# Altium integrated library Infineon_Power_MOSFET.IntLib: 1448 symbols (part 12 of 47)
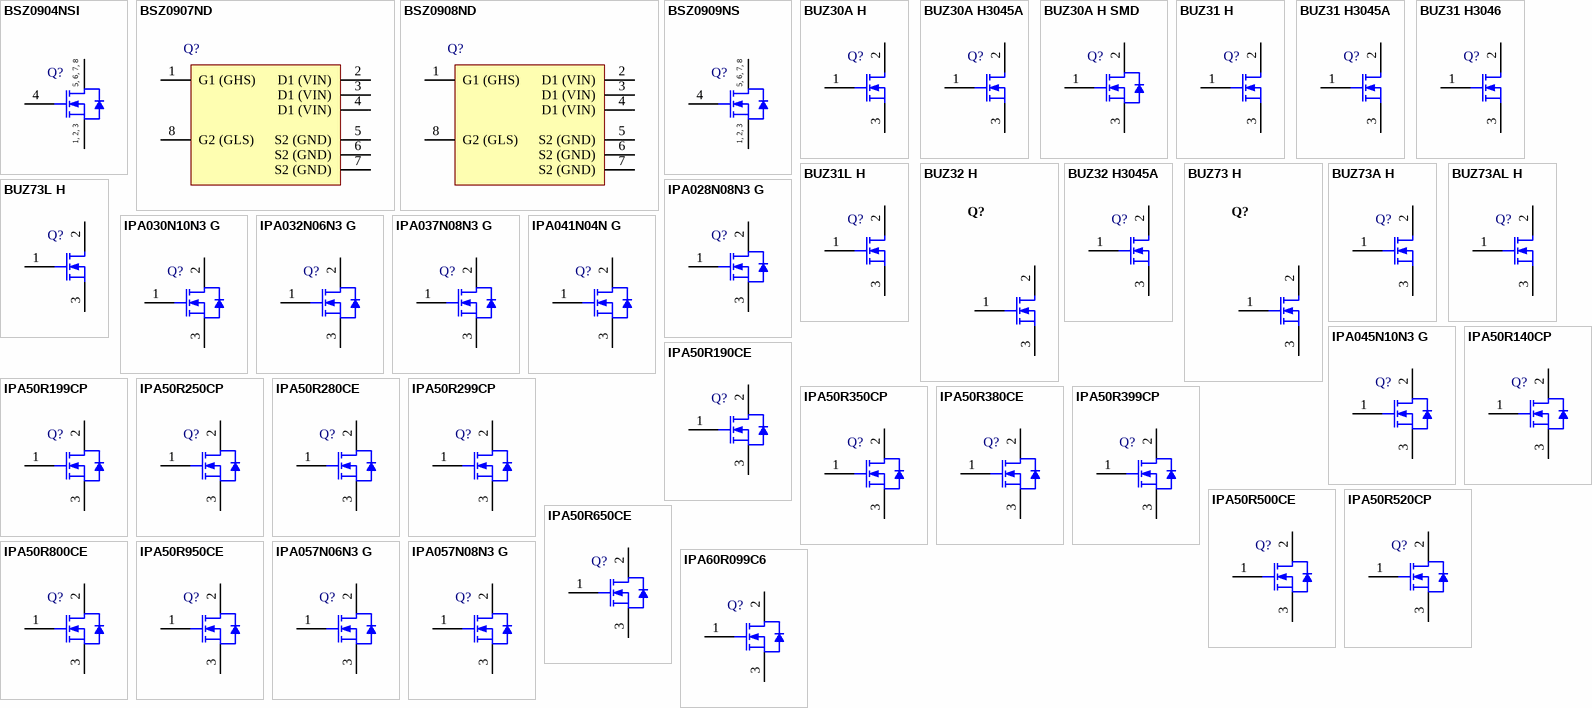
[diagram p48: symbols BSZ0904NSI to IPA60R099C6]

## BUZ73 H
designator Q?
N-Channel SIPMOS Power-Transistor, 200 V VDS, 7 A ID, -55 to 150 degC, PG-TO220-3-1, Tube, Green; Manufacturer: Infineon; PartNumber: BUZ73 H; Green: TRUE; ID (max): 7 A; IDpuls (max): 28 A; Polarity: N; Ptot (max): 40 W; RDS (on) (max): 400 mOhm; Rth: 3.1 K/W; RthJA (max): 75 K/W; VDS (max): 200 V; VGS(th) (max): 4 V; VGS(th) (min): 2.1 V; DatasheetVersion: Rev. 2.4; PackageVersion: Rev. 05, 08/2007; PackageReference: PG-TO220-3-1; PackageDescription: 3-Pin Plastic (Green) Transistor Single Outline Package, 10.03 x 8.98 mm Body, 2.54 mm Pitch; Supplier 1: Digi-Key; Supplier Part Number 1: BUZ73 H-ND; Halogen-free: TRUE; Packing: Tube; RthJC (max): 3.1 K/W; Mounting Technology: Through Hole; ComponentLink1Description: Manufacturer URL; ComponentLink1URL: http://www.infineon.com/; ComponentLink2Description: Datasheet; ComponentLink2URL: http://www.infineon.com/dgdl/Buz73+H_Rev2.4.pdf?folderId=db3a304313b8b5a60113cee8763b02d7&fileId=db3a30432219ca8f012230ef21a74530; ComponentLink3Description: Package Specification; ComponentLink3URL: http://www.infineon.com/dgdl/IPP028N08N3_Rev1%5B1%5D.0.pdf?folderId=db3a304313b8b5a60113cee8763b02d7&fileId=db3a30432313ff5e0123a3c08e7326b5
footprint INF-PG-TO220-3-1_A_V (FM, 3-Leads, Body 10.03x8.98mm, Pitch 2.54mm)
pins: 1 G, 2 D, 3 S

## BUZ73A H
designator Q?
N-Channel SIPMOS Power-Transistor, 200 V VDS, 5.5 A ID, -55 to 150 degC, PG-TO220-3-1, Tube, Green; Manufacturer: Infineon; PartNumber: BUZ73A H; Green: TRUE; ID (max): 5.5 A; IDpuls (max): 22 A; Polarity: N; Ptot (max): 40 W; RDS (on) (max): 600 mOhm; Rth: 3.1 K/W; RthJA (max): 75 K/W; VDS (max): 200 V; VGS(th) (max): 4 V; VGS(th) (min): 2.1 V; DatasheetVersion: Rev. 2.4; PackageVersion: Rev. 05, 08/2007; PackageReference: PG-TO220-3-1; PackageDescription: 3-Pin Plastic (Green) Transistor Single Outline Package, 10.03 x 8.98 mm Body, 2.54 mm Pitch; Supplier 1: Digi-Key; Supplier Part Number 1: BUZ73A H-ND; Halogen-free: TRUE; Packing: Tube; RthJC (max): 3.1 K/W; Mounting Technology: Through Hole; ComponentLink1Description: Manufacturer URL; ComponentLink1URL: http://www.infineon.com/; ComponentLink2Description: Datasheet; ComponentLink2URL: http://www.infineon.com/dgdl/Buz73A+H+G_Rev2.4.pdf?folderId=db3a304313b8b5a60113cee8763b02d7&fileId=db3a30431ddc9372011e06ee07522605; ComponentLink3Description: Package Specification; ComponentLink3URL: http://www.infineon.com/dgdl/IPP028N08N3_Rev1%5B1%5D.0.pdf?folderId=db3a304313b8b5a60113cee8763b02d7&fileId=db3a30432313ff5e0123a3c08e7326b5
footprint INF-PG-TO220-3-1_A_V (FM, 3-Leads, Body 10.03x8.98mm, Pitch 2.54mm)
pins: 1 G, 2 D, 3 S

## BUZ73AL H
designator Q?
N-Channel SIPMOS Power-Transistor, 200 V VDS, 5.5 A ID, -55 to 150 degC, PG-TO220-3-1, Tube, Green; Manufacturer: Infineon; PartNumber: BUZ73AL H; Green: TRUE; ID (max): 5.5 A; IDpuls (max): 22 A; Polarity: N; Ptot (max): 40 W; RDS (on) (max): 600 mOhm; Rth: 3.1 K/W; RthJA (max): 75 K/W; VDS (max): 200 V; VGS(th) (max): 2 V; VGS(th) (min): 1.2 V; DatasheetVersion: Rev. 2.4; PackageVersion: Rev. 05, 08/2007; PackageReference: PG-TO220-3-1; PackageDescription: 3-Pin Plastic (Green) Transistor Single Outline Package, 10.03 x 8.98 mm Body, 2.54 mm Pitch; Supplier 1: Digi-Key; Supplier Part Number 1: BUZ73AL H-ND; Halogen-free: TRUE; Packing: Tube; RDS (on) (max) (@4.5V): 600 mOhm; RthJC (max): 3.1 K/W; Mounting Technology: Through Hole; ComponentLink1Description: Manufacturer URL; ComponentLink1URL: http://www.infineon.com/; ComponentLink2Description: Datasheet; ComponentLink2URL: http://www.infineon.com/dgdl/Buz73AL+H_Rev+2.4.pdf?folderId=db3a304313b8b5a60113cee8763b02d7&fileId=db3a30432219ca8f012231104877454a; ComponentLink3Description: Package Specification; ComponentLink3URL: http://www.infineon.com/dgdl/IPP028N08N3_Rev1%5B1%5D.0.pdf?folderId=db3a304313b8b5a60113cee8763b02d7&fileId=db3a30432313ff5e0123a3c08e7326b5
footprint INF-PG-TO220-3-1_A_V (FM, 3-Leads, Body 10.03x8.98mm, Pitch 2.54mm)
pins: 1 G, 2 D, 3 S

## BUZ73L H
designator Q?
N-Channel SIPMOS Power-Transistor, 200 V VDS, 7 A ID, -55 to 150 degC, PG-TO220-3-1, Tube, Green; Manufacturer: Infineon; PartNumber: BUZ73L H; Green: TRUE; ID (max): 7 A; IDpuls (max): 28 A; Polarity: N; Ptot (max): 40 W; RDS (on) (max): 400 mOhm; Rth: 3.1 K/W; RthJA (max): 75 K/W; VDS (max): 200 V; VGS(th) (max): 2 V; VGS(th) (min): 1.2 V; DatasheetVersion: Rev. 2.4; PackageVersion: Rev. 05, 08/2007; PackageReference: PG-TO220-3-1; PackageDescription: 3-Pin Plastic (Green) Transistor Single Outline Package, 10.03 x 8.98 mm Body, 2.54 mm Pitch; Supplier 1: Digi-Key; Supplier Part Number 1: BUZ73L H-ND; Halogen-free: TRUE; Packing: Tube; RthJC (max): 3.1 K/W; Mounting Technology: Through Hole; ComponentLink1Description: Manufacturer URL; ComponentLink1URL: http://www.infineon.com/; ComponentLink2Description: Datasheet; ComponentLink2URL: http://www.infineon.com/dgdl/Buz73L+H_Rev+2.4.pdf?folderId=db3a304313b8b5a60113cee8763b02d7&fileId=db3a30432219ca8f012231355b174559; ComponentLink3Description: Package Specification; ComponentLink3URL: http://www.infineon.com/dgdl/IPP028N08N3_Rev1%5B1%5D.0.pdf?folderId=db3a304313b8b5a60113cee8763b02d7&fileId=db3a30432313ff5e0123a3c08e7326b5
footprint INF-PG-TO220-3-1_A_V (FM, 3-Leads, Body 10.03x8.98mm, Pitch 2.54mm)
pins: 1 G, 2 D, 3 S

## IPA028N08N3 G
designator Q?
N-Channel OptiMOS 3 Power-Transistor, 80 V VDS, 89 A ID, -55 to 175 degC, PG-TO220-FP, Tube, Green; Manufacturer: Infineon; PartNumber: IPA028N08N3 G; Green: TRUE; ID (max): 89 A; IDpuls (max): 352 A; Polarity: N; Ptot (max): 42 W; QG: 155 nC; RDS (on) (max): 2.8 mOhm; Rth: 3.6 K/W; VDS (max): 80 V; VGS(th) (max): 3.5 V; VGS(th) (min): 2 V; DatasheetVersion: Rev. 2.0; PackageVersion: Jan-07; PackageReference: PG-TO220-FP; PackageDescription: 3-Pin Plastic (Green) Transistor Single Outline Package, 10.5 x 9.68 mm Body, 2.54 mm Pitch; Supplier 1: Mouser; Supplier Part Number 1: 726-IPA028N08N3G; Supplier 2: Digi-Key; Supplier Part Number 2: IPA028N08N3 G-ND; Halogen-free: TRUE; Packing: Tube; RthJC (max): 3.6 K/W; Mounting Technology: Through Hole; ComponentLink1Description: Manufacturer URL; ComponentLink1URL: http://www.infineon.com/; ComponentLink2Description: Datasheet; ComponentLink2URL: http://www.infineon.com/dgdl/IPA028N08N3_Rev2.pdf?folderId=db3a30431a5c32f2011a809773886508&fileId=db3a30431f848401011fa2d78a37347b; ComponentLink3Description: Package Specification; ComponentLink3URL: http://www.infineon.com/dgdl/IPA100N08N3_Rev2.0.pdf?folderId=db3a304313b8b5a60113cee8763b02d7&fileId=db3a30431d8a6b3c011dce0add50352e
footprint INF-PG-TO220-FP (FM, 3-Leads, Body 10.5x4.7mm, Pitch 2.54mm)
pins: 1 GATE, 2 DRAIN, 3 SOURCE

## IPA030N10N3 G
designator Q?
N-Channel OptiMOS 3 Power-Transistor, 100 V VDS, 79 A ID, -55 to 175 degC, PG-TO220-FP, Tube, Green; Manufacturer: Infineon; PartNumber: IPA030N10N3 G; Green: TRUE; ID (max): 79 A; IDpuls (max): 316 A; Polarity: N; Ptot (max): 41 W; QG: 155 nC; RDS (on) (max): 3 mOhm; Rth: 3.7 K/W; VDS (max): 100 V; VGS(th) (max): 3.5 V; VGS(th) (min): 2 V; DatasheetVersion: Rev. 2.1; PackageVersion: Jan-07; PackageReference: PG-TO220-FP; PackageDescription: 3-Pin Plastic (Green) Transistor Single Outline Package, 10.5 x 9.68 mm Body, 2.54 mm Pitch; Supplier 1: Mouser; Supplier Part Number 1: 726-IPA030N10N3G; Supplier 2: Digi-Key; Supplier Part Number 2: IPA030N10N3 G-ND; Halogen-free: TRUE; Packing: Tube; RthJC (max): 3.7 K/W; Mounting Technology: Through Hole; ComponentLink1Description: Manufacturer URL; ComponentLink1URL: http://www.infineon.com/; ComponentLink2Description: Datasheet; ComponentLink2URL: http://www.infineon.com/dgdl/IPA030N10N3+G_Rev2.1.pdf?folderId=db3a304313b8b5a60113cee8763b02d7&fileId=db3a30432239cccd01226031faed7f38; ComponentLink3Description: Package Specification; ComponentLink3URL: http://www.infineon.com/dgdl/IPA100N08N3_Rev2.0.pdf?folderId=db3a304313b8b5a60113cee8763b02d7&fileId=db3a30431d8a6b3c011dce0add50352e
footprint INF-PG-TO220-FP (FM, 3-Leads, Body 10.5x4.7mm, Pitch 2.54mm)
pins: 1 GATE, 2 DRAIN, 3 SOURCE

## IPA032N06N3 G
designator Q?
N-Channel OptiMOS 3 Power-Transistor, 60 V VDS, 84 A ID, -55 to 175 degC, PG-TO220-3-31, Tube, Green; Manufacturer: Infineon; PartNumber: IPA032N06N3 G; Green: TRUE; ID (max): 84 A; IDpuls (max): 336 A; Polarity: N; Ptot (max): 41 W; QG: 124 nC; RDS (on) (max): 3.2 mOhm; Rth: 3.7 K/W; VDS (max): 60 V; VGS(th) (max): 4 V; VGS(th) (min): 2 V; DatasheetVersion: Rev. 2.0; PackageVersion: Jan-07; PackageReference: PG-TO220-3-31; PackageDescription: 3-Pin Plastic (Green) Transistor Single Outline Package, 10.5 x 9.68 mm Body, 2.54 mm Pitch; Supplier 1: Mouser; Supplier Part Number 1: 726-IPA032N06N3G; Supplier 2: Digi-Key; Supplier Part Number 2: IPA032N06N3 G-ND; Halogen-free: TRUE; Packing: Tube; RthJC (max): 3.7 K/W; Mounting Technology: Through Hole; ComponentLink1Description: Manufacturer URL; ComponentLink1URL: http://www.infineon.com/; ComponentLink2Description: Datasheet; ComponentLink2URL: http://www.infineon.com/dgdl/IPA032N06N3_Rev2+0.pdf?folderId=db3a30431441fb5d01148ca9f1be0e77&fileId=db3a3043284aacd8012882aa847a5419; ComponentLink3Description: Package Specification; ComponentLink3URL: http://www.infineon.com/dgdl/IPA093N06N3_Rev2+0.pdf?folderId=db3a30431441fb5d01148ca9f1be0e77&fileId=db3a3043284aacd8012882bf84115438
footprint INF-PG-TO220-3-31 (FM, 3-Leads, Body 10.5x4.7mm, Pitch 2.54mm)
pins: 1 GATE, 2 DRAIN, 3 SOURCE

## IPA037N08N3 G
designator Q?
N-Channel OptiMOS 3 Power-Transistor, 80 V VDS, 75 A ID, -55 to 175 degC, PG-TO220-FP, Tube, Green; Manufacturer: Infineon; PartNumber: IPA037N08N3 G; Green: TRUE; ID (max): 75 A; IDpuls (max): 300 A; Polarity: N; Ptot (max): 41 W; QG: 88 nC; RDS (on) (max): 3.7 mOhm; Rth: 3.7 K/W; VDS (max): 80 V; VGS(th) (max): 3.5 V; VGS(th) (min): 2 V; DatasheetVersion: Rev. 2.0; PackageVersion: Jan-07; PackageReference: PG-TO220-FP; PackageDescription: 3-Pin Plastic (Green) Transistor Single Outline Package, 10.5 x 9.68 mm Body, 2.54 mm Pitch; Supplier 1: Mouser; Supplier Part Number 1: 726-IPA037N08N3G; Supplier 2: Newark; Supplier Part Number 2: 60R2637; Supplier 3: Digi-Key; Supplier Part Number 3: IPA037N08N3 G-ND; Halogen-free: TRUE; Packing: Tube; RthJC (max): 3.7 K/W; Mounting Technology: Through Hole; ComponentLink1Description: Manufacturer URL; ComponentLink1URL: http://www.infineon.com/; ComponentLink2Description: Datasheet; ComponentLink2URL: http://www.infineon.com/dgdl/IPA037N08N3_Rev2.pdf?folderId=db3a304313b8b5a60113cee8763b02d7&fileId=db3a30431d8a6b3c011dce12d2e1353d; ComponentLink3Description: Package Specification; ComponentLink3URL: http://www.infineon.com/dgdl/IPA100N08N3_Rev2.0.pdf?folderId=db3a304313b8b5a60113cee8763b02d7&fileId=db3a30431d8a6b3c011dce0add50352e
footprint INF-PG-TO220-FP (FM, 3-Leads, Body 10.5x4.7mm, Pitch 2.54mm)
pins: 1 GATE, 2 DRAIN, 3 SOURCE

## IPA041N04N G
designator Q?
N-Channel OptiMOS(TM) 3 Power-Transistor, 40 V VDS, 70 A ID, PG-TO220-FP-3, Tube, Green; Manufacturer: Infineon; PartNumber: IPA041N04N G; Green: TRUE; ID (max): 70 A; IDpuls (max): 280 A; Polarity: N; Ptot (max): 35 W; QG: 42 nc; RDS (on) (max): 4.1 mOhm; RthJA (max): 62 K/W; RthJC (max): 4.3 K/W; VDS (max): 40 V; VGS(th) (max): 4 V; VGS(th) (min): 2 V; DatasheetVersion: Rev. 2.0; PackageVersion: Rev. 03, 03/2007; PackageReference: PG-TO220-FP-3-03; PackageDescription: 3-Pin Plastic (Green) Transistor Single Outline Package, 10.5 x 4.7 mm Body, 2.54 mm Pitch; Halogen-free: TRUE; Mounting: THT; Packing: Tube; Technology: OptiMOS(TM) 3; Mounting Technology: Through Hole; ComponentLink1Description: Manufacturer URL; ComponentLink1URL: http://www.infineon.com/; ComponentLink2Description: Datasheet; ComponentLink2URL: http://www.infineon.com/dgdl/DS_IPA041N04N_G_2_0.pdf?folderId=db3a304313b8b5a60113cee8763b02d7&fileId=5546d46145460399014560aaf8193f1c; ComponentLink3Description: Package Specification; ComponentLink3URL: http://www.infineon.com/dgdl/DS_IPA041N04N_G_2_0.pdf?folderId=db3a304313b8b5a60113cee8763b02d7&fileId=5546d46145460399014560aaf8193f1c
footprint INF-PG-TO220-FP-3-03 (FM, 3-Leads, Body 10.65x4.85mm, Pitch 2.54mm)
pins: 1 GATE, 2 DRAIN, 3 SOURCE

## IPA045N10N3 G
designator Q?
N-Channel OptiMOS 3 Power-Transistor, 100 V VDS, 64 A ID, -55 to 175 degC, PG-TO220-FP, Tube, Green; Manufacturer: Infineon; PartNumber: IPA045N10N3 G; Green: TRUE; ID (max): 64 A; IDpuls (max): 256 A; Polarity: N; Ptot (max): 39 W; QG: 88 nC; RDS (on) (max): 4.5 mOhm; Rth: 3.8 K/W; VDS (max): 100 V; VGS(th) (max): 3.5 V; VGS(th) (min): 2 V; DatasheetVersion: Rev. 2.2; PackageVersion: Jan-07; PackageReference: PG-TO220-FP; PackageDescription: 3-Pin Plastic (Green) Transistor Single Outline Package, 10.5 x 9.68 mm Body, 2.54 mm Pitch; Supplier 1: Mouser; Supplier Part Number 1: 726-IPA045N10N3G; Supplier 2: Digi-Key; Supplier Part Number 2: IPA045N10N3 G-ND; Halogen-free: TRUE; Packing: Tube; RthJC (max): 3.8 K/W; Mounting Technology: Through Hole; ComponentLink1Description: Manufacturer URL; ComponentLink1URL: http://www.infineon.com/; ComponentLink2Description: Datasheet; ComponentLink2URL: http://www.infineon.com/dgdl/IPA045N10N3+G_Rev2.2.pdf?folderId=db3a304313b8b5a60113cee8763b02d7&fileId=db3a30432239cccd0122600237f57ece; ComponentLink3Description: Package Specification; ComponentLink3URL: http://www.infineon.com/dgdl/IPA100N08N3_Rev2.0.pdf?folderId=db3a304313b8b5a60113cee8763b02d7&fileId=db3a30431d8a6b3c011dce0add50352e
footprint INF-PG-TO220-FP (FM, 3-Leads, Body 10.5x4.7mm, Pitch 2.54mm)
pins: 1 GATE, 2 DRAIN, 3 SOURCE

## IPA50R140CP
designator Q?
N-Channel CoolMOS Power-Transistor, 500 V VDS, 23 A ID, -55 to 150 degC, PG-TO220-3-31, Tube, Green; Manufacturer: Infineon; PartNumber: IPA50R140CP; Green: TRUE; ID (max): 23 A; IDpuls (max): 56 A; Polarity: N; Ptot (max): 34 W; QG: 48 nC; RDS (on) (max): 140 mOhm; Rth: 3.65 K/W; RthJA (max): 62 K/W; VDS (max): 500 V; VGS(th) (max): 3.5 V; VGS(th) (min): 2.5 V; DatasheetVersion: Rev. 2.1; PackageVersion: Jan-07; PackageReference: PG-TO220-3-31; PackageDescription: 3-Pin Plastic (Green) Transistor Single Outline Package, 10.5 x 9.68 mm Body, 2.54 mm Pitch; Supplier 1: Mouser; Supplier Part Number 1: 726-IPA50R140CP; Supplier 2: Newark; Supplier Part Number 2: 33P7107; Supplier 3: Farnell; Supplier Part Number 3: 1663985; Supplier 4: Digi-Key; Supplier Part Number 4: IPA50R140CP-ND; Halogen-free: TRUE; Packing: Tube; RthJC (max): 3.65 K/W; Technology: CoolMOS CP; Mounting Technology: Through Hole; ComponentLink1Description: Manufacturer URL; ComponentLink1URL: http://www.infineon.com/; ComponentLink2Description: Datasheet; ComponentLink2URL: http://www.infineon.com/dgdl/IPA50R140CP_rev2.1.pdf?folderId=db3a304412b407950112b408e8c90004&fileId=db3a304412b407950112b42cdc7347c0; ComponentLink3Description: Package Specification; ComponentLink3URL: http://www.infineon.com/dgdl/IPA093N06N3_Rev2+0.pdf?folderId=db3a30431441fb5d01148ca9f1be0e77&fileId=db3a3043284aacd8012882bf84115438
footprint INF-PG-TO220-3-31 (FM, 3-Leads, Body 10.5x4.7mm, Pitch 2.54mm)
pins: 1 GATE, 2 DRAIN, 3 SOURCE

## IPA50R190CE
designator Q?
N-Channel CoolMOS CE Power-Transistor, 500 V VDS, 18.5 A ID, -55 to 150 degC, PG-TO220-3-31, Tube, Green; Manufacturer: Infineon; PartNumber: IPA50R190CE; Green: TRUE; ID (max): 18.5 A; IDpuls (max): 63 A; Polarity: N; Ptot (max): 32 W; QG: 47.2 nC; RDS (on) (max): 190 mOhm; Rth: 3.9 K/W; RthJA (max): 80 K/W; VDS (max): 500 V; VGS(th) (max): 3.5 V; VGS(th) (min): 2.5 V; DatasheetVersion: Rev. 2.0; PackageVersion: Jan-07; PackageReference: PG-TO220-3-31; PackageDescription: 3-Pin Plastic (Green) Transistor Single Outline Package, 10.5 x 9.68 mm Body, 2.54 mm Pitch; Supplier 1: Digi-Key; Supplier Part Number 1: IPA50R190CE-ND; Halogen-free: TRUE; Packing: Tube; RthJC (max): 3.9 K/W; Technology: CoolMOS CE; Mounting Technology: Through Hole; ComponentLink1Description: Manufacturer URL; ComponentLink1URL: http://www.infineon.com/; ComponentLink2Description: Datasheet; ComponentLink2URL: http://www.infineon.com/dgdl/IPx50R380CE_2.0.pdf?folderId=db3a3043163797a6011637d4bae7003b&fileId=db3a30432e398416012e5273936c15b0; ComponentLink3Description: Package Specification; ComponentLink3URL: http://www.infineon.com/dgdl/IPA093N06N3_Rev2+0.pdf?folderId=db3a30431441fb5d01148ca9f1be0e77&fileId=db3a3043284aacd8012882bf84115438
footprint INF-PG-TO220-3-31 (FM, 3-Leads, Body 10.5x4.7mm, Pitch 2.54mm)
pins: 1 GATE, 2 DRAIN, 3 SOURCE

## IPA50R199CP
designator Q?
N-Channel CoolMOS Power-Transistor, 500 V VDS, 17 A ID, -55 to 150 degC, PG-TO220-3-31, Tube, Green; Manufacturer: Infineon; PartNumber: IPA50R199CP; Green: TRUE; ID (max): 17 A; IDpuls (max): 40 A; Polarity: N; Ptot (max): 139 W; QG: 34 nC; RDS (on) (max): 199 mOhm; Rth: 3.7 K/W; RthJA (max): 62 K/W; VDS (max): 500 V; VGS(th) (max): 3.5 V; VGS(th) (min): 2.5 V; DatasheetVersion: Rev. 2.0; PackageVersion: Jan-07; PackageReference: PG-TO220-3-31; PackageDescription: 3-Pin Plastic (Green) Transistor Single Outline Package, 10.5 x 9.68 mm Body, 2.54 mm Pitch; Supplier 1: Mouser; Supplier Part Number 1: 726-IPA50R199CP; Supplier 2: Digi-Key; Supplier Part Number 2: IPA50R199CP-ND; Halogen-free: TRUE; Packing: Tube; RthJC (max): 3.7 K/W; Technology: CoolMOS CP; Mounting Technology: Through Hole; ComponentLink1Description: Manufacturer URL; ComponentLink1URL: http://www.infineon.com/; ComponentLink2Description: Datasheet; ComponentLink2URL: http://www.infineon.com/dgdl/IPA50R199CP_rev2.0.pdf?folderId=db3a30431ff98815012019af55de3f2c&fileId=db3a304320896aa201208b347657008a; ComponentLink3Description: Package Specification; ComponentLink3URL: http://www.infineon.com/dgdl/IPA093N06N3_Rev2+0.pdf?folderId=db3a30431441fb5d01148ca9f1be0e77&fileId=db3a3043284aacd8012882bf84115438
footprint INF-PG-TO220-3-31 (FM, 3-Leads, Body 10.5x4.7mm, Pitch 2.54mm)
pins: 1 GATE, 2 DRAIN, 3 SOURCE

## IPA50R250CP
designator Q?
N-Channel CoolMOS Power-Transistor, 500 V VDS, 13 A ID, -55 to 150 degC, PG-TO220-3-31, Tube, Green; Manufacturer: Infineon; PartNumber: IPA50R250CP; Green: TRUE; ID (max): 13 A; IDpuls (max): 31 A; Polarity: N; Ptot (max): 33 W; QG: 27 nC; RDS (on) (max): 250 mOhm; Rth: 3.75 K/W; RthJA (max): 62 K/W; VDS (max): 500 V; VGS(th) (max): 3.5 V; VGS(th) (min): 2.5 V; DatasheetVersion: Rev. 2.0; PackageVersion: Jan-07; PackageReference: PG-TO220-3-31; PackageDescription: 3-Pin Plastic (Green) Transistor Single Outline Package, 10.5 x 9.68 mm Body, 2.54 mm Pitch; Supplier 1: Mouser; Supplier Part Number 1: 726-IPA50R250CP; Supplier 2: Farnell; Supplier Part Number 2: 1663988; Supplier 3: Digi-Key; Supplier Part Number 3: IPA50R250CP-ND; Halogen-free: TRUE; Packing: Tube; RthJC (max): 3.75 K/W; Technology: CoolMOS CP; Mounting Technology: Through Hole; ComponentLink1Description: Manufacturer URL; ComponentLink1URL: http://www.infineon.com/; ComponentLink2Description: Datasheet; ComponentLink2URL: http://www.infineon.com/dgdl/IPA50R250CP_rev2.0.pdf?folderId=db3a304412b407950112b408e8c90004&fileId=db3a304412b407950112b42cd97047bc; ComponentLink3Description: Package Specification; ComponentLink3URL: http://www.infineon.com/dgdl/IPA093N06N3_Rev2+0.pdf?folderId=db3a30431441fb5d01148ca9f1be0e77&fileId=db3a3043284aacd8012882bf84115438
footprint INF-PG-TO220-3-31 (FM, 3-Leads, Body 10.5x4.7mm, Pitch 2.54mm)
pins: 1 GATE, 2 DRAIN, 3 SOURCE

## IPA50R280CE
designator Q?
N-Channel CoolMOS CE Power-Transistor, 500 V VDS, 13 A ID, -55 to 150 degC, PG-TO220-3-31, Tube, Green; Manufacturer: Infineon; PartNumber: IPA50R280CE; Green: TRUE; ID (max): 13 A; IDpuls (max): 42.9 A; Polarity: N; Ptot (max): 30 W; QG: 32.6 nC; RDS (on) (max): 280 mOhm; Rth: 4.11 K/W; RthJA (max): 80 K/W; VDS (max): 500 V; VGS(th) (max): 3.5 V; VGS(th) (min): 2.5 V; DatasheetVersion: Rev. 2.0; PackageVersion: Jan-07; PackageReference: PG-TO220-3-31; PackageDescription: 3-Pin Plastic (Green) Transistor Single Outline Package, 10.5 x 9.68 mm Body, 2.54 mm Pitch; Supplier 1: Mouser; Supplier Part Number 1: 726-IPA50R280CE; Supplier 2: Digi-Key; Supplier Part Number 2: IPA50R280CEIN-ND; Halogen-free: TRUE; Packing: Tube; RthJC (max): 4.11 K/W; Technology: CoolMOS CE; Mounting Technology: Through Hole; ComponentLink1Description: Manufacturer URL; ComponentLink1URL: http://www.infineon.com/; ComponentLink2Description: Datasheet; ComponentLink2URL: http://www.infineon.com/dgdl/IPx50R280CE+2.0.pdf?folderId=db3a3043156fd5730115c736bcc70ff2&fileId=db3a3043382e837301384ce20ea743c7; ComponentLink3Description: Package Specification; ComponentLink3URL: http://www.infineon.com/dgdl/IPA093N06N3_Rev2+0.pdf?folderId=db3a30431441fb5d01148ca9f1be0e77&fileId=db3a3043284aacd8012882bf84115438
footprint INF-PG-TO220-3-31 (FM, 3-Leads, Body 10.5x4.7mm, Pitch 2.54mm)
pins: 1 GATE, 2 DRAIN, 3 SOURCE

## IPA50R299CP
designator Q?
N-Channel CoolMOS Power-Transistor, 500 V VDS, 12 A ID, -55 to 150 degC, PG-TO220-3-31, Tube, Green; Manufacturer: Infineon; PartNumber: IPA50R299CP; Green: TRUE; ID (max): 12 A; IDpuls (max): 26 A; Polarity: N; Ptot (max): 104 W; QG: 23 nC; RDS (on) (max): 299 mOhm; Rth: 2.8 K/W; RthJA (max): 62 K/W; VDS (max): 500 V; VGS(th) (max): 3.5 V; VGS(th) (min): 2.5 V; DatasheetVersion: Rev. 2.0; PackageVersion: Jan-07; PackageReference: PG-TO220-3-31; PackageDescription: 3-Pin Plastic (Green) Transistor Single Outline Package, 10.5 x 9.68 mm Body, 2.54 mm Pitch; Supplier 1: Mouser; Supplier Part Number 1: 726-IPA50R299CP; Supplier 2: Newark; Supplier Part Number 2: 33P7110; Supplier 3: Farnell; Supplier Part Number 3: 1663989; Supplier 4: Digi-Key; Supplier Part Number 4: IPA50R299CP-ND; Halogen-free: TRUE; Packing: Tube; RthJC (max): 2.8 K/W; Technology: CoolMOS CP; Mounting Technology: Through Hole; ComponentLink1Description: Manufacturer URL; ComponentLink1URL: http://www.infineon.com/; ComponentLink2Description: Datasheet; ComponentLink2URL: http://www.infineon.com/dgdl/IPA50R299CP_rev2.0.pdf?folderId=db3a304412b407950112b408e8c90004&fileId=db3a304412b407950112b42db07348c7; ComponentLink3Description: Package Specification; ComponentLink3URL: http://www.infineon.com/dgdl/IPA093N06N3_Rev2+0.pdf?folderId=db3a30431441fb5d01148ca9f1be0e77&fileId=db3a3043284aacd8012882bf84115438
footprint INF-PG-TO220-3-31 (FM, 3-Leads, Body 10.5x4.7mm, Pitch 2.54mm)
pins: 1 GATE, 2 DRAIN, 3 SOURCE

## IPA50R350CP
designator Q?
N-Channel CoolMOS Power-Transistor, 500 V VDS, 10 A ID, -55 to 150 degC, PG-TO220-3-31, Tube, Green; Manufacturer: Infineon; PartNumber: IPA50R350CP; Green: TRUE; ID (max): 10 A; IDpuls (max): 22 A; Polarity: N; Ptot (max): 32 W; QG: 19 nC; RDS (on) (max): 350 mOhm; Rth: 3.9 K/W; RthJA (max): 62 K/W; VDS (max): 500 V; VGS(th) (max): 3.5 V; VGS(th) (min): 2.5 V; DatasheetVersion: Rev. 2.1; PackageVersion: Jan-07; PackageReference: PG-TO220-3-31; PackageDescription: 3-Pin Plastic (Green) Transistor Single Outline Package, 10.5 x 9.68 mm Body, 2.54 mm Pitch; Supplier 1: Mouser; Supplier Part Number 1: 726-IPA50R350CP; Supplier 2: Farnell; Supplier Part Number 2: 1663990; Supplier 3: Digi-Key; Supplier Part Number 3: IPA50R350CP-ND; Halogen-free: TRUE; Packing: Tube; RthJC (max): 3.9 K/W; Technology: CoolMOS CP; Mounting Technology: Through Hole; ComponentLink1Description: Manufacturer URL; ComponentLink1URL: http://www.infineon.com/; ComponentLink2Description: Datasheet; ComponentLink2URL: http://www.infineon.com/dgdl/IPA50R350CP_rev2.1.pdf?folderId=db3a304412b407950112b408e8c90004&fileId=db3a304412b407950112b42db39548cb; ComponentLink3Description: Package Specification; ComponentLink3URL: http://www.infineon.com/dgdl/IPA093N06N3_Rev2+0.pdf?folderId=db3a30431441fb5d01148ca9f1be0e77&fileId=db3a3043284aacd8012882bf84115438
footprint INF-PG-TO220-3-31 (FM, 3-Leads, Body 10.5x4.7mm, Pitch 2.54mm)
pins: 1 GATE, 2 DRAIN, 3 SOURCE

## IPA50R380CE
designator Q?
N-Channel CoolMOS CE Power-Transistor, 500 V VDS, 9.9 A ID, -55 to 150 degC, PG-TO220-3-31, Tube, Green; Manufacturer: Infineon; PartNumber: IPA50R380CE; Green: TRUE; ID (max): 9.9 A; IDpuls (max): 32.4 A; Polarity: N; Ptot (max): 29 W; QG: 24.8 nC; RDS (on) (max): 380 mOhm; Rth: 4 K/W; RthJA (max): 80 K/W; RthJC (max): 4.28 K/W; VDS (max): 500 V; VGS(th) (max): 3.5 V; VGS(th) (min): 2.5 V; DatasheetVersion: Rev. 2.0; PackageVersion: Jan-07; PackageReference: PG-TO220-3-31; PackageDescription: 3-Pin Plastic (Green) Transistor Single Outline Package, 10.5 x 9.68 mm Body, 2.54 mm Pitch; Supplier 1: Digi-Key; Supplier Part Number 1: IPA50R380CE-ND; Halogen-free: TRUE; Packing: Tube; Technology: CoolMOS CE; Mounting Technology: Through Hole; ComponentLink1Description: Manufacturer URL; ComponentLink1URL: http://www.infineon.com/; ComponentLink2Description: Datasheet; ComponentLink2URL: http://www.infineon.com/dgdl/IPx50R380CE_2.0.pdf?folderId=db3a3043156fd5730115c736bcc70ff2&fileId=db3a30432e398416012e527f2a5015c1; ComponentLink3Description: Package Specification; ComponentLink3URL: http://www.infineon.com/dgdl/IPA093N06N3_Rev2+0.pdf?folderId=db3a30431441fb5d01148ca9f1be0e77&fileId=db3a3043284aacd8012882bf84115438
footprint INF-PG-TO220-3-31 (FM, 3-Leads, Body 10.5x4.7mm, Pitch 2.54mm)
pins: 1 GATE, 2 DRAIN, 3 SOURCE

## IPA50R399CP
designator Q?
N-Channel CoolMOS Power-Transistor, 500 V VDS, 9 A ID, -55 to 150 degC, PG-TO220-3-31, Tube, Green; Manufacturer: Infineon; PartNumber: IPA50R399CP; Green: TRUE; ID (max): 9 A; IDpuls (max): 20 A; Polarity: N; Ptot (max): 83 W; QG: 17 nC; RDS (on) (max): 399 mOhm; Rth: 4 K/W; RthJA (max): 62 K/W; VDS (max): 500 V; VGS(th) (max): 3.5 V; VGS(th) (min): 2.5 V; DatasheetVersion: Rev. 2.1; PackageVersion: Jan-07; PackageReference: PG-TO220-3-31; PackageDescription: 3-Pin Plastic (Green) Transistor Single Outline Package, 10.5 x 9.68 mm Body, 2.54 mm Pitch; Supplier 1: Mouser; Supplier Part Number 1: 726-IPA50R399CP; Supplier 2: Newark; Supplier Part Number 2: 33P7112; Supplier 3: Farnell; Supplier Part Number 3: 1663991; Supplier 4: Digi-Key; Supplier Part Number 4: IPA50R399CP-ND; Halogen-free: TRUE; Packing: Tube; RthJC (max): 4 K/W; Technology: CoolMOS CP; Mounting Technology: Through Hole; ComponentLink1Description: Manufacturer URL; ComponentLink1URL: http://www.infineon.com/; ComponentLink2Description: Datasheet; ComponentLink2URL: http://www.infineon.com/dgdl/IPA50R399CP_rev2.1.pdf?folderId=db3a304412b407950112b408e8c90004&fileId=db3a304412b407950112b42db9b348d3; ComponentLink3Description: Package Specification; ComponentLink3URL: http://www.infineon.com/dgdl/IPA093N06N3_Rev2+0.pdf?folderId=db3a30431441fb5d01148ca9f1be0e77&fileId=db3a3043284aacd8012882bf84115438
footprint INF-PG-TO220-3-31 (FM, 3-Leads, Body 10.5x4.7mm, Pitch 2.54mm)
pins: 1 GATE, 2 DRAIN, 3 SOURCE

## IPA50R500CE
designator Q?
N-Channel CoolMOS CE Power-Transistor, 500 V VDS, 7.6 A ID, -55 to 150 degC, PG-TO220-3-31, Tube, Green; Manufacturer: Infineon; PartNumber: IPA50R500CE; Green: TRUE; ID (max): 7.6 A; IDpuls (max): 24 A; Polarity: N; Ptot (max): 28 W; QG: 18.7 nC; RDS (on) (max): 500 mOhm; Rth: 4.46 K/W; RthJA (max): 80 K/W; VDS (max): 500 V; VGS(th) (max): 3.5 V; VGS(th) (min): 2.5 V; DatasheetVersion: Rev. 2.0; PackageVersion: Jan-07; PackageReference: PG-TO220-3-31; PackageDescription: 3-Pin Plastic (Green) Transistor Single Outline Package, 10.5 x 9.68 mm Body, 2.54 mm Pitch; Supplier 1: Mouser; Supplier Part Number 1: 726-IPA50R500CE; Supplier 2: Digi-Key; Supplier Part Number 2: IPA50R500CEIN-ND; Halogen-free: TRUE; Packing: Tube; RthJC (max): 4.46 K/W; Technology: CoolMOS CE; Mounting Technology: Through Hole; ComponentLink1Description: Manufacturer URL; ComponentLink1URL: http://www.infineon.com/; ComponentLink2Description: Datasheet; ComponentLink2URL: http://www.infineon.com/dgdl/IPx50R500CE_2.0.pdf?folderId=db3a3043156fd5730115c736bcc70ff2&fileId=db3a3043382e83730138512967f70fce; ComponentLink3Description: Package Specification; ComponentLink3URL: http://www.infineon.com/dgdl/IPA093N06N3_Rev2+0.pdf?folderId=db3a30431441fb5d01148ca9f1be0e77&fileId=db3a3043284aacd8012882bf84115438
footprint INF-PG-TO220-3-31 (FM, 3-Leads, Body 10.5x4.7mm, Pitch 2.54mm)
pins: 1 GATE, 2 DRAIN, 3 SOURCE

## IPA50R520CP
designator Q?
N-Channel CoolMOS Power-Transistor, 500 V VDS, 7.1 A ID, -55 to 150 degC, PG-TO220-3-31, Tube, Green; Manufacturer: Infineon; PartNumber: IPA50R520CP; Green: TRUE; ID (max): 7.1 A; IDpuls (max): 15 A; Polarity: N; Ptot (max): 66 W; QG: 13 nC; RDS (on) (max): 520 mOhm; Rth: 4.2 K/W; RthJA (max): 62 K/W; VDS (max): 500 V; VGS(th) (max): 3.5 V; VGS(th) (min): 2.5 V; DatasheetVersion: Rev. 2.0; PackageVersion: Jan-07; PackageReference: PG-TO220-3-31; PackageDescription: 3-Pin Plastic (Green) Transistor Single Outline Package, 10.5 x 9.68 mm Body, 2.54 mm Pitch; Supplier 1: Mouser; Supplier Part Number 1: 726-IPA50R520CP; Supplier 2: Farnell; Supplier Part Number 2: 1663992; Supplier 3: Digi-Key; Supplier Part Number 3: IPA50R520CP-ND; Halogen-free: TRUE; Packing: Tube; RthJC (max): 4.2 K/W; Technology: CoolMOS CP; Mounting Technology: Through Hole; ComponentLink1Description: Manufacturer URL; ComponentLink1URL: http://www.infineon.com/; ComponentLink2Description: Datasheet; ComponentLink2URL: http://www.infineon.com/dgdl/IPA50R520CP_rev2.0.pdf?folderId=db3a304412b407950112b408e8c90004&fileId=db3a304412b407950112b42dbcc548d7; ComponentLink3Description: Package Specification; ComponentLink3URL: http://www.infineon.com/dgdl/IPA093N06N3_Rev2+0.pdf?folderId=db3a30431441fb5d01148ca9f1be0e77&fileId=db3a3043284aacd8012882bf84115438
footprint INF-PG-TO220-3-31 (FM, 3-Leads, Body 10.5x4.7mm, Pitch 2.54mm)
pins: 1 GATE, 2 DRAIN, 3 SOURCE

## IPA50R650CE
designator Q?
N-Channel CoolMOS CE Power-Transistor, 500 V VDS, 6.1 A ID, -55 to 150 degC, PG-TO220-3-31, Tube, Green; Manufacturer: Infineon; PartNumber: IPA50R650CE; Green: TRUE; ID (max): 6.1 A; IDpuls (max): 19 A; Polarity: N; Ptot (max): 27 W; QG: 15 nC; RDS (on) (max): 650 mOhm; Rth: 4.6 K/W; RthJA (max): 80 K/W; VDS (max): 500 V; VGS(th) (max): 3.5 V; VGS(th) (min): 2.5 V; DatasheetVersion: Rev. 2.0; PackageVersion: Jan-07; PackageReference: PG-TO220-3-31; PackageDescription: 3-Pin Plastic (Green) Transistor Single Outline Package, 10.5 x 9.68 mm Body, 2.54 mm Pitch; Supplier 1: Digi-Key; Supplier Part Number 1: IPA50R650CE-ND; Halogen-free: TRUE; Packing: Tube; RthJC (max): 4.6 K/W; Technology: CoolMOS CE; Mounting Technology: Through Hole; ComponentLink1Description: Manufacturer URL; ComponentLink1URL: http://www.infineon.com/; ComponentLink2Description: Datasheet; ComponentLink2URL: http://www.infineon.com/dgdl/IPA50R650CE+2.0.pdf?folderId=db3a3043163797a6011637d4bae7003b&fileId=db3a304339d29c450139d4d1cdd003a9; ComponentLink3Description: Package Specification; ComponentLink3URL: http://www.infineon.com/dgdl/IPA093N06N3_Rev2+0.pdf?folderId=db3a30431441fb5d01148ca9f1be0e77&fileId=db3a3043284aacd8012882bf84115438
footprint INF-PG-TO220-3-31 (FM, 3-Leads, Body 10.5x4.7mm, Pitch 2.54mm)
pins: 1 GATE, 2 DRAIN, 3 SOURCE

## IPA50R800CE
designator Q?
N-Channel CoolMOS CE Power-Transistor, 500 V VDS, 5 A ID, -55 to 150 degC, PG-TO220-3-31, Tube, Green; Manufacturer: Infineon; PartNumber: IPA50R800CE; Green: TRUE; ID (max): 5 A; IDpuls (max): 15.5 A; Polarity: N; Ptot (max): 26 W; QG: 12.4 nC; RDS (on) (max): 800 mOhm; Rth: 4.73 K/W; RthJA (max): 80 K/W; VDS (max): 500 V; VGS(th) (max): 3.5 V; VGS(th) (min): 2.5 V; DatasheetVersion: Rev. 2.0; PackageVersion: Jan-07; PackageReference: PG-TO220-3-31; PackageDescription: 3-Pin Plastic (Green) Transistor Single Outline Package, 10.5 x 9.68 mm Body, 2.54 mm Pitch; Supplier 1: Digi-Key; Supplier Part Number 1: IPA50R800CE-ND; Halogen-free: TRUE; Packing: Tube; RthJC (max): 4.73 K/W; Technology: CoolMOS CE; Mounting Technology: Through Hole; ComponentLink1Description: Manufacturer URL; ComponentLink1URL: http://www.infineon.com/; ComponentLink2Description: Datasheet; ComponentLink2URL: http://www.infineon.com/dgdl/IPA50R800CE+2.0.pdf?folderId=db3a3043156fd5730115c736bcc70ff2&fileId=db3a304339d29c450139d82a1c8656be; ComponentLink3Description: Package Specification; ComponentLink3URL: http://www.infineon.com/dgdl/IPA093N06N3_Rev2+0.pdf?folderId=db3a30431441fb5d01148ca9f1be0e77&fileId=db3a3043284aacd8012882bf84115438
footprint INF-PG-TO220-3-31 (FM, 3-Leads, Body 10.5x4.7mm, Pitch 2.54mm)
pins: 1 GATE, 2 DRAIN, 3 SOURCE

## IPA50R950CE
designator Q?
N-Channel CoolMOS CE Power-Transistor, 500 V VDS, 4.3 A ID, -55 to 150 degC, PG-TO220-3-31, Tube, Green; Manufacturer: Infineon; PartNumber: IPA50R950CE; Green: TRUE; ID (max): 4.3 A; IDpuls (max): 12.8 A; Polarity: N; Ptot (max): 26 W; QG: 10.5 nC; RDS (on) (max): 950 mOhm; Rth: 4.86 K/W; RthJA (max): 80 K/W; VDS (max): 500 V; VGS(th) (max): 3.5 V; VGS(th) (min): 2.5 V; DatasheetVersion: Rev. 2.0; PackageVersion: Jan-07; PackageReference: PG-TO220-3-31; PackageDescription: 3-Pin Plastic (Green) Transistor Single Outline Package, 10.5 x 9.68 mm Body, 2.54 mm Pitch; Supplier 1: Mouser; Supplier Part Number 1: 726-IPA50R950CE; Supplier 2: Digi-Key; Supplier Part Number 2: IPA50R950CEIN-ND; Halogen-free: TRUE; Packing: Tube; RthJC (max): 4.86 K/W; Technology: CoolMOS CE; Mounting Technology: Through Hole; ComponentLink1Description: Manufacturer URL; ComponentLink1URL: http://www.infineon.com/; ComponentLink2Description: Datasheet; ComponentLink2URL: http://www.infineon.com/dgdl/IPA50R950CE+2.0.pdf?folderId=db3a3043156fd5730115c736bcc70ff2&fileId=db3a3043382e8373013851892deb1048; ComponentLink3Description: Package Specification; ComponentLink3URL: http://www.infineon.com/dgdl/IPA093N06N3_Rev2+0.pdf?folderId=db3a30431441fb5d01148ca9f1be0e77&fileId=db3a3043284aacd8012882bf84115438
footprint INF-PG-TO220-3-31 (FM, 3-Leads, Body 10.5x4.7mm, Pitch 2.54mm)
pins: 1 GATE, 2 DRAIN, 3 SOURCE

## IPA057N06N3 G
designator Q?
N-Channel OptiMOS 3 Power-Transistor, 60 V VDS, 60 A ID, -55 to 175 degC, PG-TO220-3-31, Tube, Green; Manufacturer: Infineon; PartNumber: IPA057N06N3 G; Green: TRUE; ID (max): 60 A; IDpuls (max): 240 A; Polarity: N; Ptot (max): 38 W; QG: 61 nC; RDS (on) (max): 5.7 mOhm; Rth: 4 K/W; VDS (max): 60 V; VGS(th) (max): 4 V; VGS(th) (min): 2 V; DatasheetVersion: Rev. 2.0; PackageVersion: Jan-07; PackageReference: PG-TO220-3-31; PackageDescription: 3-Pin Plastic (Green) Transistor Single Outline Package, 10.5 x 9.68 mm Body, 2.54 mm Pitch; Supplier 1: Mouser; Supplier Part Number 1: 726-IPA057N06N3G; Supplier 2: Digi-Key; Supplier Part Number 2: IPA057N06N3 G-ND; Halogen-free: TRUE; Packing: Tube; RthJC (max): 4 K/W; Mounting Technology: Through Hole; ComponentLink1Description: Manufacturer URL; ComponentLink1URL: http://www.infineon.com/; ComponentLink2Description: Datasheet; ComponentLink2URL: http://www.infineon.com/dgdl/IPA057N06N3_Rev2+0.pdf?folderId=db3a30431441fb5d01148ca9f1be0e77&fileId=db3a3043284aacd8012882b3ac145428; ComponentLink3Description: Package Specification; ComponentLink3URL: http://www.infineon.com/dgdl/IPA093N06N3_Rev2+0.pdf?folderId=db3a30431441fb5d01148ca9f1be0e77&fileId=db3a3043284aacd8012882bf84115438
footprint INF-PG-TO220-3-31 (FM, 3-Leads, Body 10.5x4.7mm, Pitch 2.54mm)
pins: 1 GATE, 2 DRAIN, 3 SOURCE

## IPA057N08N3 G
designator Q?
N-Channel OptiMOS 3 Power-Transistor, 80 V VDS, 60 A ID, -55 to 175 degC, PG-TO220-FP, Tube, Green; Manufacturer: Infineon; PartNumber: IPA057N08N3 G; Green: TRUE; ID (max): 60 A; IDpuls (max): 240 A; Polarity: N; Ptot (max): 39 W; QG: 52 nC; RDS (on) (max): 5.7 mOhm; Rth: 3.8 K/W; VDS (max): 80 V; VGS(th) (max): 3.5 V; VGS(th) (min): 2 V; DatasheetVersion: Rev. 2.0; PackageVersion: Jan-07; PackageReference: PG-TO220-FP; PackageDescription: 3-Pin Plastic (Green) Transistor Single Outline Package, 10.5 x 9.68 mm Body, 2.54 mm Pitch; Supplier 1: Mouser; Supplier Part Number 1: 726-IPA057N08N3G; Supplier 2: Digi-Key; Supplier Part Number 2: IPA057N08N3 G-ND; Halogen-free: TRUE; Packing: Tube; RthJC (max): 3.8 K/W; Mounting Technology: Through Hole; ComponentLink1Description: Manufacturer URL; ComponentLink1URL: http://www.infineon.com/; ComponentLink2Description: Datasheet; ComponentLink2URL: http://www.infineon.com/dgdl/IPA057N08N3_Rev2.pdf?folderId=db3a304313b8b5a60113cee8763b02d7&fileId=db3a30431d8a6b3c011dce0004a4351e; ComponentLink3Description: Package Specification; ComponentLink3URL: http://www.infineon.com/dgdl/IPA100N08N3_Rev2.0.pdf?folderId=db3a304313b8b5a60113cee8763b02d7&fileId=db3a30431d8a6b3c011dce0add50352e
footprint INF-PG-TO220-FP (FM, 3-Leads, Body 10.5x4.7mm, Pitch 2.54mm)
pins: 1 GATE, 2 DRAIN, 3 SOURCE

## IPA60R099C6
designator Q?
N-Channel CoolMOS C6 Power-Transistor, 600 V VDS, 37.9 A ID, -55 to 150 degC, PG-TO220-3-31, Tube, Green; Manufacturer: Infineon; PartNumber: IPA60R099C6; Green: TRUE; ID (max): 37.9 A; IDpuls (max): 112 A; Polarity: N; Ptot (max): 35 W; QG: 119 nC; RDS (on) (max): 99 mOhm; Rth: 3.6 K/W; RthJA (max): 80 K/W; VDS (max): 600 V; VGS(th) (max): 3.5 V; VGS(th) (min): 2.5 V; DatasheetVersion: Rev. 2.1; PackageVersion: Jan-07; PackageReference: PG-TO220-3-31; PackageDescription: 3-Pin Plastic (Green) Transistor Single Outline Package, 10.5 x 9.68 mm Body, 2.54 mm Pitch; Supplier 1: Mouser; Supplier Part Number 1: 726-IPA60R099C6; Supplier 2: Newark; Supplier Part Number 2: 47W3458; Supplier 3: Farnell; Supplier Part Number 3: 2212837; Supplier 4: Digi-Key; Supplier Part Number 4: IPA60R099C6-ND; Halogen-free: TRUE; Packing: Tube; RthJC (max): 3.6 K/W; Technology: CoolMOS C6; Mounting Technology: Through Hole; ComponentLink1Description: Manufacturer URL; ComponentLink1URL: http://www.infineon.com/; ComponentLink2Description: Datasheet; ComponentLink2URL: http://www.infineon.com/dgdl/IPA60R099C6_2_1.pdf?folderId=db3a3043163797a6011638933eda014b&fileId=db3a30432313ff5e012394c16cfb067e; ComponentLink3Description: Package Specification; ComponentLink3URL: http://www.infineon.com/dgdl/IPA093N06N3_Rev2+0.pdf?folderId=db3a30431441fb5d01148ca9f1be0e77&fileId=db3a3043284aacd8012882bf84115438
footprint INF-PG-TO220-3-31 (FM, 3-Leads, Body 10.5x4.7mm, Pitch 2.54mm)
pins: 1 GATE, 2 DRAIN, 3 SOURCE

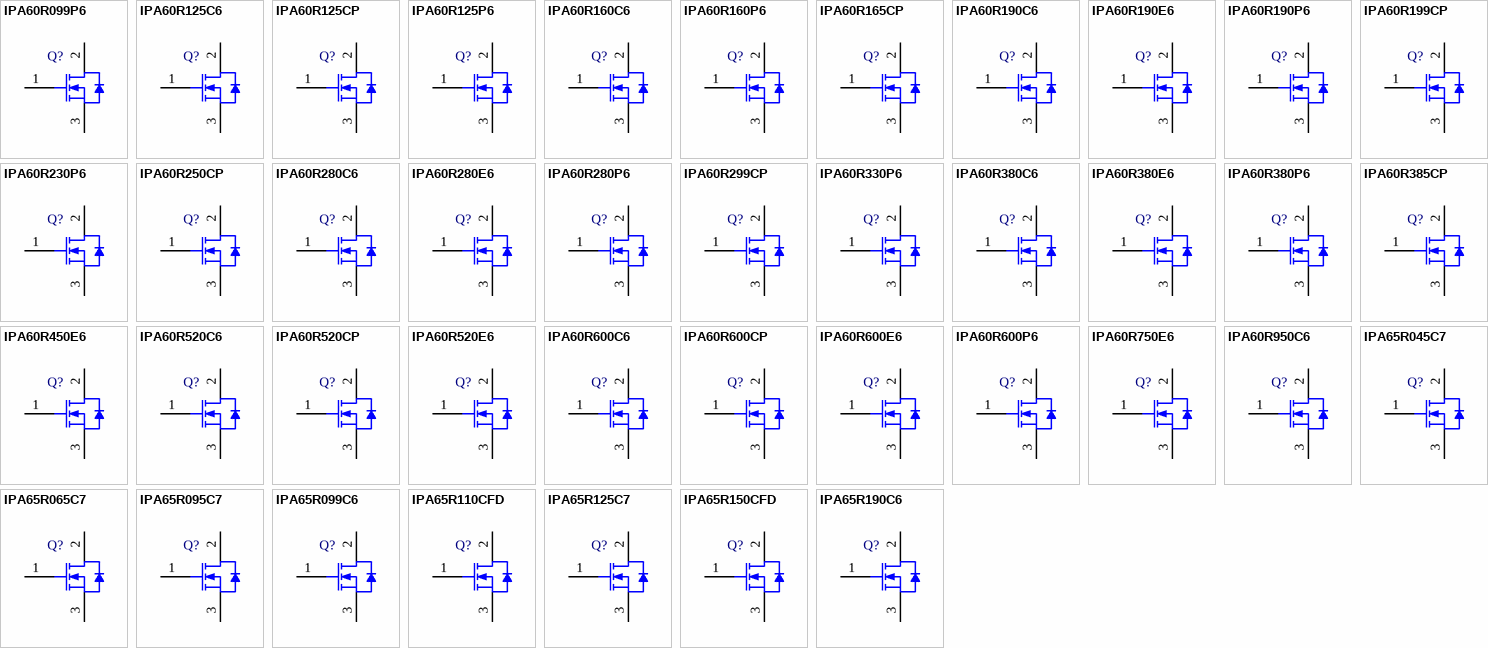
[diagram p10: symbols IPA60R099P6 to IPA65R190C6]

## IPA60R099P6
designator Q?
N-Channel CoolMOS(TM) P6 Power Transistor, 600 V VDS, -55 to 150 degC, PG-TO220, Tube, Green; Manufacturer: Infineon; PartNumber: IPA60R099P6; Green: TRUE; Polarity: FALSE; RDS (on) (max): 99 mOhm; VDS (max): 600 V; DatasheetVersion: Rev. 2.0; PackageVersion: Jan-07; PackageReference: PG-TO220-FP; PackageDescription: 3-Pin Plastic (Green) Transistor Single Outline Package, 10.5 x 9.68 mm Body, 2.54 mm Pitch; Supplier 1: Mouser; Supplier Part Number 1: N/A; Halogen-free: TRUE; Packing: Tube; Mounting Technology: Through Hole; ComponentLink1Description: Manufacturer URL; ComponentLink1URL: http://www.infineon.com/; ComponentLink2Description: Datasheet; ComponentLink2URL: http://www.infineon.com/dgdl/DS_IPx60R099P6_2_0.pdf?folderId=db3a3043156fd5730115c736bcc70ff2&fileId=5546d461464245d301468f0e6251673a; ComponentLink3Description: Package Specification; ComponentLink3URL: http://www.infineon.com/dgdl/DS_IPx60R099P6_2_0.pdf?folderId=db3a3043156fd5730115c736bcc70ff2&fileId=5546d461464245d301468f0e6251673a
footprint INF-PG-TO220-FP (FM, 3-Leads, Body 10.5x4.7mm, Pitch 2.54mm)
pins: 1 GATE, 2 DRAIN, 3 SOURCE

## IPA60R125C6
designator Q?
N-Channel CoolMOS C6 Power-Transistor, 600 V VDS, 30 A ID, -55 to 150 degC, PG-TO220-3-31, Tube, Green; Manufacturer: Infineon; PartNumber: IPA60R125C6; Green: TRUE; ID (max): 30 A; IDpuls (max): 89 A; Polarity: N; Ptot (max): 34 W; QG: 96 nC; RDS (on) (max): 125 mOhm; Rth: 0.57 K/W; RthJA (max): 80 K/W; RthJC (max): 3.65 K/W; VDS (max): 600 V; VGS(th) (max): 3.5 V; VGS(th) (min): 2.5 V; DatasheetVersion: Rev. 2.1; PackageVersion: Jan-07; PackageReference: PG-TO220-3-31; PackageDescription: 3-Pin Plastic (Green) Transistor Single Outline Package, 10.5 x 9.68 mm Body, 2.54 mm Pitch; Supplier 1: Mouser; Supplier Part Number 1: 726-IPA60R125C6XK; Supplier 2: Newark; Supplier Part Number 2: 30T1821; Supplier 3: Farnell; Supplier Part Number 3: 1860832; Supplier 4: Digi-Key; Supplier Part Number 4: IPA60R125C6-ND; Halogen-free: TRUE; Packing: Tube; Technology: CoolMOS C6; Mounting Technology: Through Hole; ComponentLink1Description: Manufacturer URL; ComponentLink1URL: http://www.infineon.com/; ComponentLink2Description: Datasheet; ComponentLink2URL: http://www.infineon.com/dgdl/IPW60R125C6_2_1.pdf?folderId=db3a3043163797a6011637d4bae7003b&fileId=db3a30432313ff5e01235b1ae8fc4910; ComponentLink3Description: Package Specification; ComponentLink3URL: http://www.infineon.com/dgdl/IPA093N06N3_Rev2+0.pdf?folderId=db3a30431441fb5d01148ca9f1be0e77&fileId=db3a3043284aacd8012882bf84115438
footprint INF-PG-TO220-3-31 (FM, 3-Leads, Body 10.5x4.7mm, Pitch 2.54mm)
pins: 1 GATE, 2 DRAIN, 3 SOURCE

## IPA60R125CP
designator Q?
N-Channel CoolMOS Power-Transistor, 600 V VDS, 25 A ID, -55 to 150 degC, PG-TO220-3-31, Tube, Green; Manufacturer: Infineon; PartNumber: IPA60R125CP; Green: TRUE; ID (max): 25 A; IDpuls (max): 82 A; Polarity: N; Ptot (max): 35 W; QG: 53 nC; RDS (on) (max): 125 mOhm; Rth: 3.6 K/W; RthJA (max): 80 K/W; VDS (max): 600 V; VGS(th) (max): 3.5 V; VGS(th) (min): 2.5 V; DatasheetVersion: Rev. 2.1; PackageVersion: Jan-07; PackageReference: PG-TO220-3-31; PackageDescription: 3-Pin Plastic (Green) Transistor Single Outline Package, 10.5 x 9.68 mm Body, 2.54 mm Pitch; Supplier 1: Mouser; Supplier Part Number 1: 726-IPA60R125CP; Supplier 2: Newark; Supplier Part Number 2: 33P7114; Supplier 3: Farnell; Supplier Part Number 3: 1663993; Supplier 4: Digi-Key; Supplier Part Number 4: IPA60R125CP-ND; Halogen-free: TRUE; Packing: Tube; RthJC (max): 3.6 K/W; Technology: CoolMOS CP; Mounting Technology: Through Hole; ComponentLink1Description: Manufacturer URL; ComponentLink1URL: http://www.infineon.com/; ComponentLink2Description: Datasheet; ComponentLink2URL: http://www.infineon.com/dgdl/IPA60R125CP_rev2.1.pdf?folderId=db3a304412b407950112b408e8c90004&fileId=db3a304412b407950112b42e043b4939; ComponentLink3Description: Package Specification; ComponentLink3URL: http://www.infineon.com/dgdl/IPA093N06N3_Rev2+0.pdf?folderId=db3a30431441fb5d01148ca9f1be0e77&fileId=db3a3043284aacd8012882bf84115438
footprint INF-PG-TO220-3-31 (FM, 3-Leads, Body 10.5x4.7mm, Pitch 2.54mm)
pins: 1 GATE, 2 DRAIN, 3 SOURCE

## IPA60R125P6
designator Q?
N-Channel CoolMOS(TM) P6 Power Transistor, 600 V VDS, -55 to 150 degC, PG-TO220, Tube, Green; Manufacturer: Infineon; PartNumber: IPA60R125P6; Green: TRUE; Polarity: FALSE; RDS (on) (max): 125 mOhm; VDS (max): 600 V; DatasheetVersion: Rev. 2.0; PackageVersion: Jan-07; PackageReference: PG-TO220-FP; PackageDescription: 3-Pin Plastic (Green) Transistor Single Outline Package, 10.5 x 9.68 mm Body, 2.54 mm Pitch; Supplier 1: Mouser; Supplier Part Number 1: N/A; Halogen-free: TRUE; Packing: Tube; Mounting Technology: Through Hole; ComponentLink1Description: Manufacturer URL; ComponentLink1URL: http://www.infineon.com/; ComponentLink2Description: Datasheet; ComponentLink2URL: http://www.infineon.com/dgdl/DS_IPx60R125P6_2_0.pdf?folderId=db3a3043163797a6011637d4bae7003b&fileId=5546d461464245d301468af2915b667f; ComponentLink3Description: Package Specification; ComponentLink3URL: http://www.infineon.com/dgdl/DS_IPx60R099P6_2_0.pdf?folderId=db3a3043156fd5730115c736bcc70ff2&fileId=5546d461464245d301468f0e6251673a
footprint INF-PG-TO220-FP (FM, 3-Leads, Body 10.5x4.7mm, Pitch 2.54mm)
pins: 1 GATE, 2 DRAIN, 3 SOURCE

## IPA60R160C6
designator Q?
N-Channel CoolMOS C6 Power-Transistor, 600 V VDS, 23.8 A ID, -55 to 150 degC, PG-TO220-3-31, Tube, Green; Manufacturer: Infineon; PartNumber: IPA60R160C6; Green: TRUE; ID (max): 23.8 A; IDpuls (max): 70 A; Polarity: N; Ptot (max): 34 W; QG: 75 nC; RDS (on) (max): 160 mOhm; Rth: 3.67 K/W; RthJA (max): 80 K/W; VDS (max): 600 V; VGS(th) (max): 3.5 V; VGS(th) (min): 2.5 V; DatasheetVersion: Rev. 2.1; PackageVersion: Jan-07; PackageReference: PG-TO220-3-31; PackageDescription: 3-Pin Plastic (Green) Transistor Single Outline Package, 10.5 x 9.68 mm Body, 2.54 mm Pitch; Supplier 1: Mouser; Supplier Part Number 1: 726-IPA60R160C6; Supplier 2: Digi-Key; Supplier Part Number 2: IPA60R160C6-ND; Halogen-free: TRUE; Packing: Tube; RthJC (max): 3.67 K/W; Technology: CoolMOS C6; Mounting Technology: Through Hole; ComponentLink1Description: Manufacturer URL; ComponentLink1URL: http://www.infineon.com/; ComponentLink2Description: Datasheet; ComponentLink2URL: http://www.infineon.com/dgdl/IPA60R160C6_2_1.pdf?folderId=db3a3043163797a6011638933eda014b&fileId=db3a304323b87bc20123f059d1e040c1; ComponentLink3Description: Package Specification; ComponentLink3URL: http://www.infineon.com/dgdl/IPA093N06N3_Rev2+0.pdf?folderId=db3a30431441fb5d01148ca9f1be0e77&fileId=db3a3043284aacd8012882bf84115438
footprint INF-PG-TO220-3-31 (FM, 3-Leads, Body 10.5x4.7mm, Pitch 2.54mm)
pins: 1 GATE, 2 DRAIN, 3 SOURCE

## IPA60R160P6
designator Q?
N-Channel CoolMOS(TM) P6 Power Transistor, 600 V VDS, -55 to 150 degC, PG-TO220, Tube, Green; Manufacturer: Infineon; PartNumber: IPA60R160P6; Green: TRUE; Polarity: FALSE; RDS (on) (max): 160 mOhm; VDS (max): 600 V; DatasheetVersion: Rev. 2.1; PackageVersion: Jan-07; PackageReference: PG-TO220-FP; PackageDescription: 3-Pin Plastic (Green) Transistor Single Outline Package, 10.5 x 9.68 mm Body, 2.54 mm Pitch; Supplier 1: Mouser; Supplier Part Number 1: N/A; Halogen-free: TRUE; Packing: Tube; Mounting Technology: Through Hole; ComponentLink1Description: Manufacturer URL; ComponentLink1URL: http://www.infineon.com/; ComponentLink2Description: Datasheet; ComponentLink2URL: http://www.infineon.com/dgdl/DS_IPx60R160P6_2_1.pdf?folderId=db3a3043156fd5730115c736bcc70ff2&fileId=db3a3043414fd3ef01415efd27711e0b; ComponentLink3Description: Package Specification; ComponentLink3URL: http://www.infineon.com/dgdl/DS_IPx60R099P6_2_0.pdf?folderId=db3a3043156fd5730115c736bcc70ff2&fileId=5546d461464245d301468f0e6251673a
footprint INF-PG-TO220-FP (FM, 3-Leads, Body 10.5x4.7mm, Pitch 2.54mm)
pins: 1 GATE, 2 DRAIN, 3 SOURCE

## IPA60R165CP
designator Q?
N-Channel CoolMOS Power-Transistor, 600 V VDS, 21 A ID, -55 to 150 degC, PG-TO220-3-31, Tube, Green; Manufacturer: Infineon; PartNumber: IPA60R165CP; Green: TRUE; ID (max): 21 A; IDpuls (max): 61 A; Polarity: N; Ptot (max): 34 W; QG: 39 nC; RDS (on) (max): 165 mOhm; Rth: 3.65 K/W; RthJA (max): 80 K/W; VDS (max): 600 V; VGS(th) (max): 3.5 V; VGS(th) (min): 2.5 V; DatasheetVersion: Rev. 2.2; PackageVersion: Jan-07; PackageReference: PG-TO220-3-31; PackageDescription: 3-Pin Plastic (Green) Transistor Single Outline Package, 10.5 x 9.68 mm Body, 2.54 mm Pitch; Supplier 1: Mouser; Supplier Part Number 1: 726-IPA60R165CP; Supplier 2: Digi-Key; Supplier Part Number 2: IPA60R165CP-ND; Halogen-free: TRUE; Packing: Tube; RthJC (max): 3.65 K/W; Technology: CoolMOS CP; Mounting Technology: Through Hole; ComponentLink1Description: Manufacturer URL; ComponentLink1URL: http://www.infineon.com/; ComponentLink2Description: Datasheet; ComponentLink2URL: http://www.infineon.com/dgdl/IPA60R165CP_rev2.2.pdf?folderId=db3a304412b407950112b408e8c90004&fileId=db3a304412b407950112b42c6f2d46fb; ComponentLink3Description: Package Specification; ComponentLink3URL: http://www.infineon.com/dgdl/IPA093N06N3_Rev2+0.pdf?folderId=db3a30431441fb5d01148ca9f1be0e77&fileId=db3a3043284aacd8012882bf84115438
footprint INF-PG-TO220-3-31 (FM, 3-Leads, Body 10.5x4.7mm, Pitch 2.54mm)
pins: 1 GATE, 2 DRAIN, 3 SOURCE

## IPA60R190C6
designator Q?
N-Channel CoolMOS C6 Power-Transistor, 600 V VDS, 20.2 A ID, -55 to 150 degC, PG-TO220-3-31, Tube, Green; Manufacturer: Infineon; PartNumber: IPA60R190C6; Green: TRUE; ID (max): 20.2 A; IDpuls (max): 59 A; Polarity: N; Ptot (max): 34 W; QG: 63 nC; RDS (on) (max): 190 mOhm; Rth: 3.7 K/W; RthJA (max): 80 K/W; VDS (max): 600 V; VGS(th) (max): 3.5 V; VGS(th) (min): 2.5 V; DatasheetVersion: Rev. 2.1; PackageVersion: Jan-07; PackageReference: PG-TO220-3-31; PackageDescription: 3-Pin Plastic (Green) Transistor Single Outline Package, 10.5 x 9.68 mm Body, 2.54 mm Pitch; Supplier 1: Mouser; Supplier Part Number 1: 726-IPA60R190C6XK; Supplier 2: Digi-Key; Supplier Part Number 2: IPA60R190C6-ND; Halogen-free: TRUE; Packing: Tube; RthJC (max): 3.7 K/W; Technology: CoolMOS C6; Mounting Technology: Through Hole; ComponentLink1Description: Manufacturer URL; ComponentLink1URL: http://www.infineon.com/; ComponentLink2Description: Datasheet; ComponentLink2URL: http://www.infineon.com/dgdl/IPA60R190C62.1.1.pdf?folderId=db3a30431ff98815012019af55de3f2c&fileId=db3a30432239cccd012264ffa8d31148; ComponentLink3Description: Package Specification; ComponentLink3URL: http://www.infineon.com/dgdl/IPA093N06N3_Rev2+0.pdf?folderId=db3a30431441fb5d01148ca9f1be0e77&fileId=db3a3043284aacd8012882bf84115438
footprint INF-PG-TO220-3-31 (FM, 3-Leads, Body 10.5x4.7mm, Pitch 2.54mm)
pins: 1 GATE, 2 DRAIN, 3 SOURCE